# EAGLE library part LM4780 (library lmopamp2)
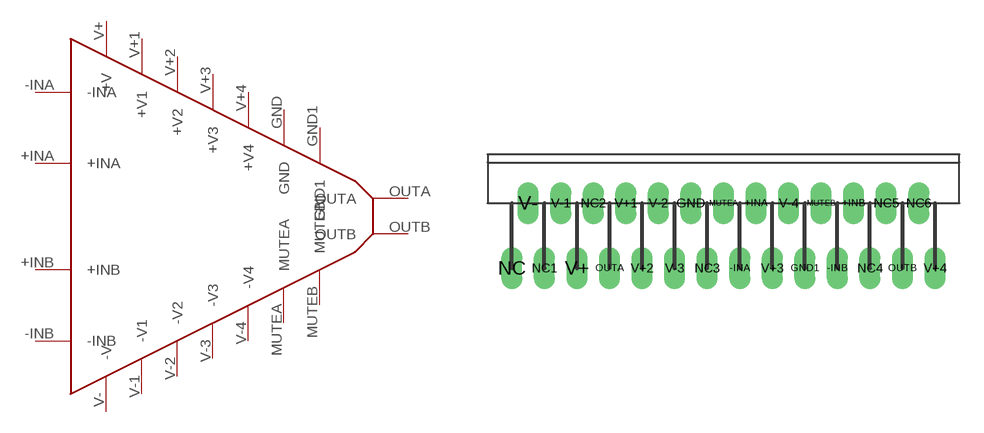
[diagram p3: symbol with the pads of LM47802; footprint LM47802]

Designator prefix -

## LM4780  [LM47802]
+INA  +INA
+INB  +INB
-INA  -INA
-INB  -INB
GND  GND
GND1  GND1
MUTEA  MUTEA
MUTEB  MUTEB
OUTA  OUTA
OUTB  OUTB
V+  +V
V+1  +V1
V+2  +V2
V+3  +V3
V+4  +V4
V-  -V
V-1  -V1
V-2  -V2
V-3  -V3
V-4  -V4

## Footprint LM47802 (pad centres in mm)
drill 0.8 long: +INA 11.176,3.048; +INB 17.272,3.048; -INA 10.16,-1.016; -INB 16.256,-1.016; GND 7.112,3.048; GND1 14.224,-1.016; MUTEA 9.144,3.048; MUTEB 15.24,3.048; NC -4.064,-1.016; NC1 -2.032,-1.016; NC2 1.016,3.048; NC3 8.128,-1.016; NC4 18.288,-1.016; NC5 19.304,3.048; NC6 21.336,3.048; OUTA 2.032,-1.016; OUTB 20.32,-1.016; V+ 0,-1.016; V+1 3.048,3.048; V+2 4.064,-1.016; V+3 12.192,-1.016; V+4 22.352,-1.016; V- -3.048,3.048; V-1 -1.016,3.048; V-2 5.08,3.048; V-3 6.096,-1.016; V-4 13.208,3.048